# Altium schematic symbol library Global_Schematics.SchLib: 10 symbols
Pins are listed as number, name and electrical type; pins without a type are passive.

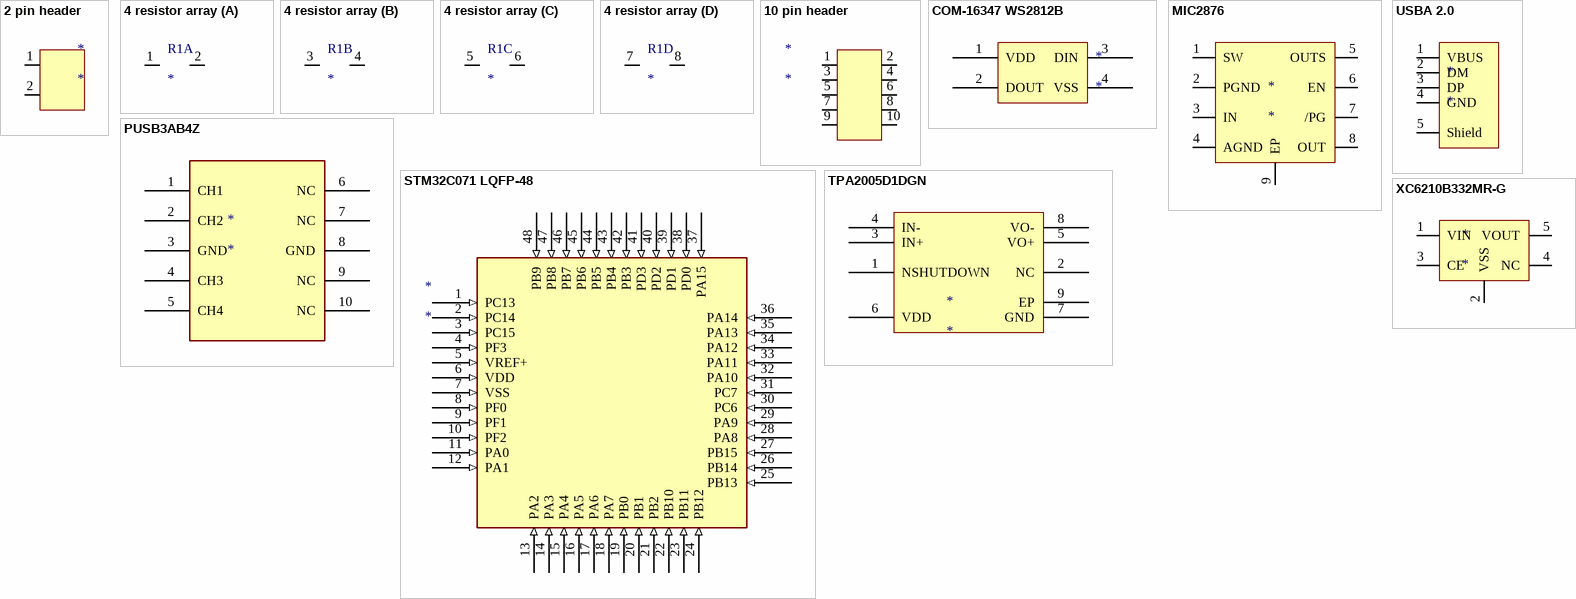
[diagram p0: symbols 2 pin header to XC6210B332MR-G]

## 2 pin header
designator *
pins: 1, 2

## 4 resistor array
designator R1
part A pins: 1, 2 rr
part B pins: 3, 4
part C pins: 5, 6
part D pins: 7, 8

## 10 pin header
designator *
pins: 1, 2, 3, 4, 5, 6, 7, 8, 9, 10

## COM-16347 WS2812B
designator *
pins: 1 VDD, 2 DOUT, 3 DIN, 4 VSS

## MIC2876
designator *
pins: 1 SW, 2 PGND, 3 IN, 4 AGND, 5 OUTS, 6 EN, 7 /PG, 8 OUT, 9 EP 

## PUSB3AB4Z
designator *
pins: 1 CH1, 2 CH2, 3 GND, 4 CH3, 5 CH4, 6 NC, 7 NC, 8 GND, 9 NC, 10 NC

## STM32C071 LQFP-48
designator *
pins: 1 PC13 (in), 2 PC14 (in), 3 PC15 (in), 4 PF3 (in), 5 VREF+ (in), 6 VDD (in), 7 VSS (in), 8 PF0 (in), 9 PF1 (in), 10 PF2 (in), 11 PA0 (in), 12 PA1 (in), 13 PA2 (in), 14 PA3 (in), 15 PA4 (in), 16 PA5 (in), 17 PA6 (in), 18 PA7 (in), 19 PB0 (in), 20 PB1 (in), 21 PB2 (in), 22 PB10 (in), 23 PB11 (in), 24 PB12 (in), 25 PB13 (in), 26 PB14 (in), 27 PB15 (in), 28 PA8 (in), 29 PA9 (in), 30 PC6 (in), 31 PC7 (in), 32 PA10 (in), 33 PA11 (in), 34 PA12 (in), 35 PA13 (in), 36 PA14 (in), 37 PA15 (in), 38 PD0 (in), 39 PD1 (in), 40 PD2 (in), 41 PD3 (in), 42 PB3 (in), 43 PB4 (in), 44 PB5 (in), 45 PB6 (in), 46 PB7 (in), 47 PB8 (in), 48 PB9 (in)

## TPA2005D1DGN
designator *
pins: 1 NSHUTDOWN, 2 NC, 3 IN+, 4 IN-, 5 VO+, 6 VDD, 7 GND, 8  VO-, 9 EP

## USBA 2.0
designator *
pins: 1 VBUS , 2 DM, 3 DP, 4 GND, 5 Shield

## XC6210B332MR-G
designator *
pins: 1 VIN, 2 VSS, 3 CE, 4 NC, 5 VOUT